# EAGLE library part RASPBERRYPIV2 (library RPi)
PART: Raspberry Pi Rev2 This device represents the pins on the Rasberry Pi that may be used when creating a cape.
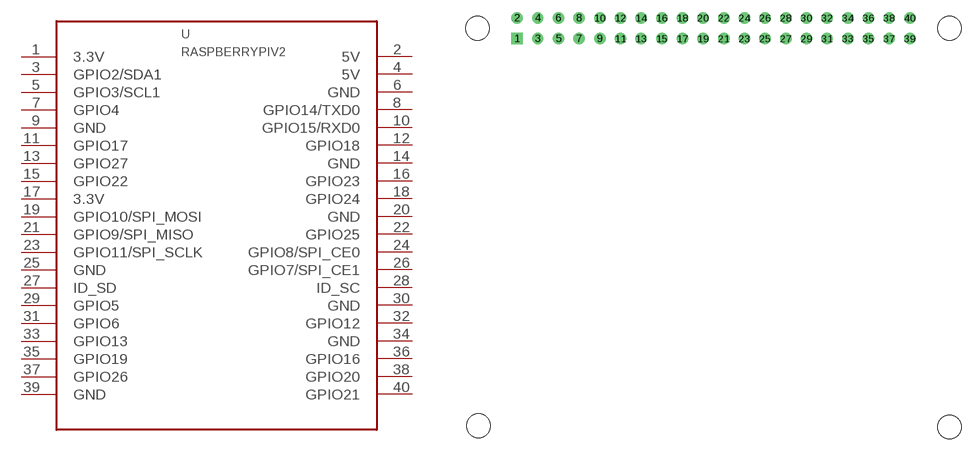
[diagram p0: symbol with the pads of RASPBERRY_PI; footprint RASPBERRY_PI]

Designator prefix -

## RASPBERRYPIV2  [RASPBERRY_PI]
1  3.3V  pwr
2  5V  pwr
3  GPIO2/SDA1
4  5V  pwr
5  GPIO3/SCL1
6  GND  pwr
7  GPIO4
8  GPIO14/TXD0
9  GND  pwr
10  GPIO15/RXD0
11  GPIO17
12  GPIO18
13  GPIO27
14  GND  pwr
15  GPIO22
16  GPIO23
17  3.3V  pwr
18  GPIO24
19  GPIO10/SPI_MOSI
20  GND  pwr
21  GPIO9/SPI_MISO
22  GPIO25
23  GPIO11/SPI_SCLK
24  GPIO8/SPI_CE0
25  GND  pwr
26  GPIO7/SPI_CE1
27  ID_SD
28  ID_SC
29  GPIO5
30  GND  pwr
31  GPIO6
32  GPIO12
33  GPIO13
34  GND  pwr
35  GPIO19
36  GPIO16
37  GPIO26
38  GPIO20
39  GND  pwr
40  GPIO21

## Footprint RASPBERRY_PI (pad centres in mm)
Raspberry Pi v2.0 Board with GPIO connector Raspberry Pi 2 dimensions <http://www.raspberrypi-spy.co.uk/2012/11/raspberry-pi-mounting-hole-positions-and-template>
drill 0.889 square: 1 8.37,51.23
drill 0.889 round: 2 8.37,53.77; 3 10.91,51.23; 4 10.91,53.77; 5 13.45,51.23; 6 13.45,53.77; 7 15.99,51.23; 8 15.99,53.77; 9 18.53,51.23; 10 18.53,53.77; 11 21.07,51.23; 12 21.07,53.77; 13 23.61,51.23; 14 23.61,53.77; 15 26.15,51.23; 16 26.15,53.77; 17 28.69,51.23; 18 28.69,53.77; 19 31.23,51.23; 20 31.23,53.77; 21 33.77,51.23; 22 33.77,53.77; 23 36.31,51.23; 24 36.31,53.77; 25 38.85,51.23; 26 38.85,53.77; 27 41.39,51.23; 28 41.39,53.77; 29 43.93,51.23; 30 43.93,53.77; 31 46.47,51.23; 32 46.47,53.77; 33 49.01,51.23; 34 49.01,53.77; 35 51.55,51.23; 36 51.55,53.77; 37 54.09,51.23; 38 54.09,53.77; 39 56.63,51.23; 40 56.63,53.77
hole 2.9 at 3.61,3.65
hole 2.9 at 61.5,52.5
hole 2.9 at 3.5,52.5
hole 2.9 at 61.5,3.5